# Altium schematic symbol library Voltage Regulator.SchLib: 21 symbols
Pins are listed as number, name and electrical type; pins without a type are passive.

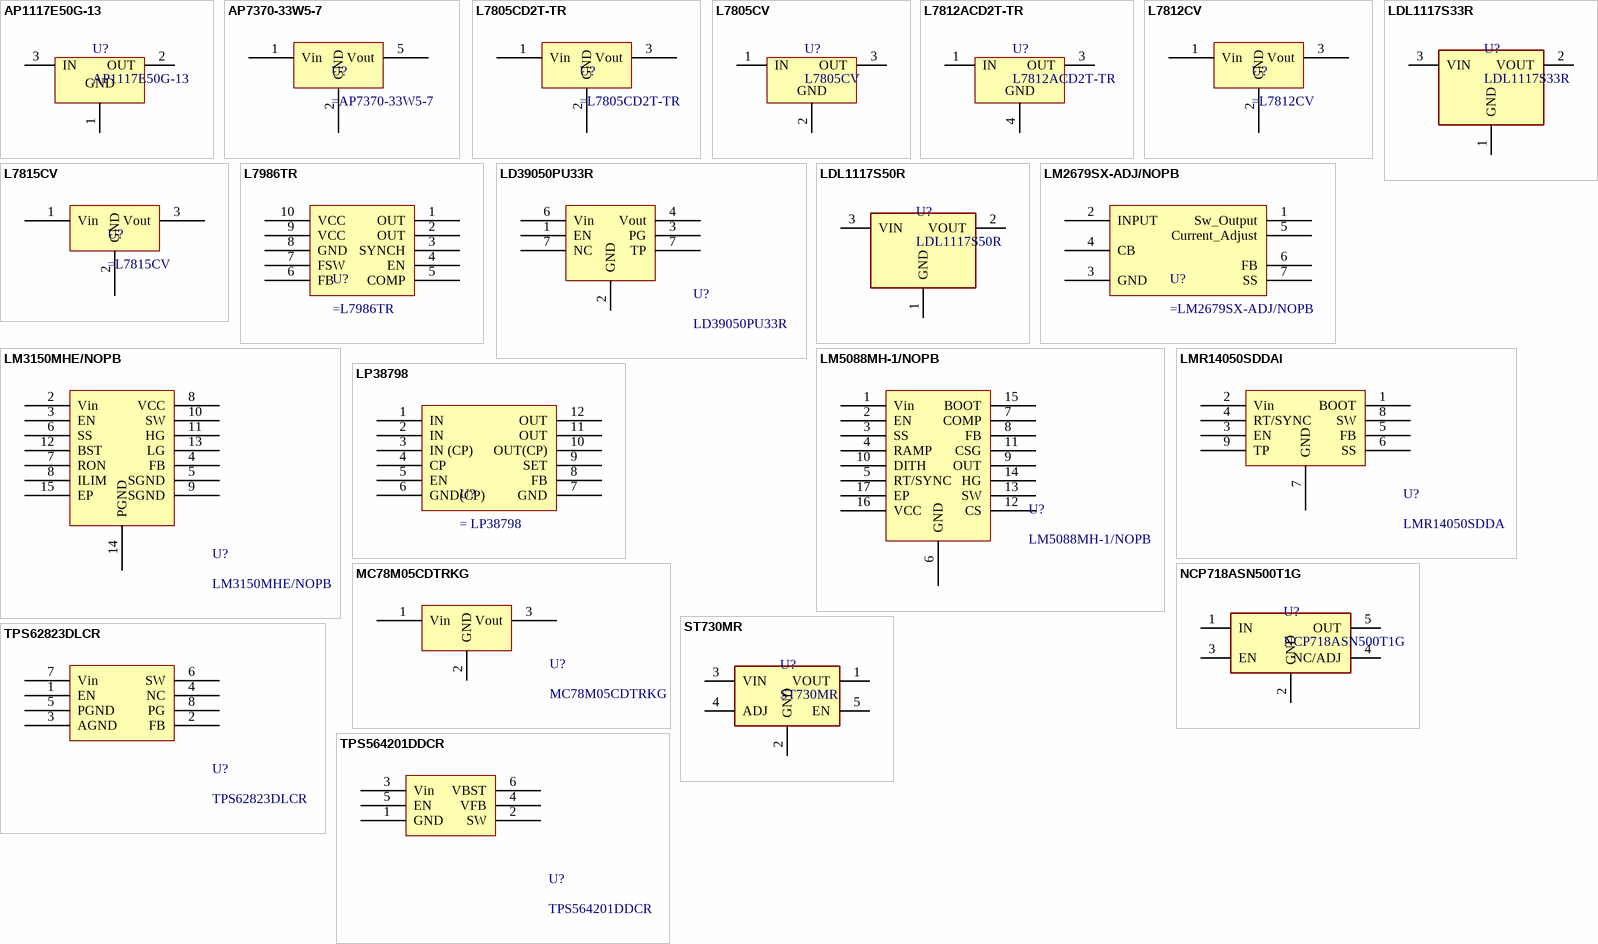
[diagram p0: symbols AP1117E50G-13 to TPS564201DDCR]

## AP1117E50G-13
designator U?
IC REG LINEAR 5V 1A SOT-223-3; Manufacturer: Diodes Incorporated; Max Power Dissipation: 15 W; Output Type: Fixed; Number of Regulators: 1; Voltage - Input (Max): 18V; Current - Quiescent (Iq): 10 mA; Voltage - Dropout (Max): 1.3V; Power Dissipation: Internally limited; Voltage - Output (Max): 5.3V; Supplier 1: MOUSER; Part Number: AP1117E50G-13; Library Ref: Voltage Regulator; Category: Linear Voltage Regulator; Price: 1= 0.48000, 10= 0.38900, 100= 0.24000 (USD); Package/ Case: SOT-223-3; Operating Temperature: -20°C/125°C; Voltage - Output (Min/Fixed): 5V; Supplier Part Number 1: 621-AP1117E50G-13; Current - Output: 1 A; ComponentLink1Description: Mouser Link; ComponentLink1URL: https://br.mouser.com/ProductDetail/Diodes-Incorporated/AP1117E50G-13?qs=%2Fha2pyFadugY3B1se8ggjHM3Rnn%252BdepklK%252BjtxF%2FSx8Z%2FYRK43Uigw%3D%3D; ComponentLink2Description: Datasheet; ComponentLink2URL: https://br.mouser.com/datasheet/2/115/AP1117-82280.pdf
footprint SOT-223-3
pins: 1 GND (power), 2 OUT (power), 3 IN (power)

## AP7370-33W5-7
designator U?
IC REGLINEAR 3.3V 300mA; Manufacturer: Diodes Incorporated; Part Number: AP7370-33W5-7; Max Power Dissipation: 0,967W; Output Type: Fixed; Voltage - Input (Max): 20V; Current - Quiescent (Iq): Ultra Low; Voltage - Dropout (Max): 16.7V; Power Dissipation: 0.967W; Supplier 1: Mouser; Library Ref: Voltage Regulator; Category: Linear Voltage Regulator; Price: 1=0,40, 10=0,32, 100=0,19 (USD); Datasheet: https://br.mouser.com/datasheet/2/115/AP7370-1605740.pdf; Package/ Case: SOT-25-5; Operating Temperature: -65 to 150ºC; Mouser Link: https://br.mouser.com/ProductDetail/Diodes-Incorporated/AP7370-33W5-7?qs=%2Fha2pyFadugvTLtMbpNAWKSUPVJjR9Anq%2F198IzgkwzIRMdjBskxocCj%2FSGsAqTl; Voltage - Output (Min/Fixed): 3.3V; Supplier Part Number 1: 621-AP7370-33W5-7; Current - Output: 300mA; Voltage - Output (Max): 3.3V
pins: 1 Vin, 2 GND, 5 Vout

## L7805CD2T-TR
designator U?
IC REG LINEAR 5V 1.5A; Manufacturer: ST; Part Number: L7805CD2T-TR; Max Power Dissipation: Internally Limited; Output Type: Fixed; Voltage - Input (Max): 35 to 40V; Current - Quiescent (Iq): 6mA; Voltage - Dropout (Max): 30V; Current - Output: 1A; Supplier 1: Mouser; Library Ref: Voltage Regulator; Category: Linear Voltage Regulator; Price: 1=0,93, 10=0,83, 100=0,79 (USD); Datasheet: https://br.mouser.com/datasheet/2/389/cd00000444-1795274.pdf; Package/ Case: D2PAK; Operating Temperature: -40 to 125 ºC; Mouser Link: https://br.mouser.com/ProductDetail/STMicroelectronics/L7805CD2T-TR?qs=%2Fha2pyFadujE9KQ1BxQHaLKqcK8XYkwQA8UfL%2FIGb8dfQq%2Fq%2FT%2Fjqg%3D%3D; Voltage - Output (Min/Fixed): 5V; Supplier Part Number 1: 511-L7805CD2T-TR; Power Dissipation: Internally Limited; Voltage - Output (Max): 5V
pins: 1 Vin, 2 GND, 3 Vout

## L7805CV
designator U?
IC REG LINEAR 5V 1A TO-220; Manufacturer: STMicroelectronics; Max Power Dissipation: Internally limited; Output Type: Fixed; Number of Regulators: 1; Voltage - Input (Max): 35V; Current - Quiescent (Iq): 6 mA; Voltage - Output (Max): 5.3V; Supplier 1: MOUSER; Part Number: L7805CV; Library Ref: Voltage Regulator; Category: Linear Voltage Regulator; Price: 1= 0.67000, 10= 0.53200, 100= 0.39500 (USD); Package/ Case: TO-220; Operating Temperature: 0°C/125°C; Voltage - Output (Min/Fixed): 5V; Supplier Part Number 1: 511-L7805CV; Current - Output: 1 A; Power Dissipation: Internally limited; ComponentLink1Description: Mouser Link; ComponentLink1URL: https://br.mouser.com/ProductDetail/STMicroelectronics/L7805CV?qs=9NrABl3fj%2FqplZAHiYUxWg%3D%3D; ComponentLink2Description: Datasheet; ComponentLink2URL: https://br.mouser.com/datasheet/2/389/cd00000444-1795274.pdf
footprint TO-220 (TO, Thru-Hole, Vertical, Heatsink Mounted; 3 In-Line Leads; Pitch 2.54 mm)
pins: 1 IN (power), 2 GND (power), 3 OUT (power)

## L7812ACD2T-TR
designator U?
IC REG LINEAR 12V 1.5A D2PAK; Manufacturer: STMicroelectronics; Max Power Dissipation: Internally limited; Output Type: Fixed; Number of Regulators: 1; Voltage - Input (Max): 35V; Current - Quiescent (Iq): 6 mA; Voltage - Output (Max): 12.3V; Supplier 1: MOUSER; Part Number: L7812ACD2T-TR; Library Ref: Voltage Regulator; Category: Linear Voltage Regulator; Price: 1= 0.83000, 10= 0.69000, 100= 0.56400 (USD); Package/ Case: D2PAK; Operating Temperature: 0°C/125°C; Voltage - Output (Min/Fixed): 12V; Supplier Part Number 1: 511-L7812ACD2T-TR; Current - Output: 1.5 A; Power Dissipation: Internally limited; ComponentLink1Description: Mouser Link; ComponentLink1URL: https://br.mouser.com/ProductDetail/STMicroelectronics/L7812ACD2T-TR?qs=%2Fha2pyFadughRW5ba%2FUlu%252BBIrfEWqNYikXUXbqNAKzaYx5upn8F2%252Bw%3D%3D; ComponentLink2Description: Datasheet; ComponentLink2URL: https://www.mouser.com/datasheet/2/389/cd00000444-1795274.pdf
footprint D2PAK
pins: 1 IN (power), 3 OUT (power), 4 GND (power)

## L7812CV
designator U?
IC REG LINEAR 12V 1.5A; Manufacturer: ST; Part Number: L7812CV; Max Power Dissipation: Internally Limited; Output Type: Fixed; Voltage - Input (Max): 35V to 40V; Current - Quiescent (Iq): 6mA; Voltage - Dropout (Max): 23V; Supplier 1: Mouser; Library Ref: Voltage Regulator; Category: Linear Voltage Regulator; Price: 1= 0,49, 10= 0,39, 100=0,29 (USD); Datasheet: https://br.mouser.com/datasheet/2/389/cd00000444-1795274.pdf; Package/ Case: TO-220; Operating Temperature: -40 to 125ºC; Mouser Link: https://br.mouser.com/ProductDetail/STMicroelectronics/L7812CV?qs=5Uvc6lfWVJzVGZQZmBynyg%3D%3D; Voltage - Output (Min/Fixed): 12V; Supplier Part Number 1: 511-L7812CV; Current - Output: 1.5A; Power Dissipation: Internally Limited; Voltage - Output (Max): 12V
pins: 1 Vin, 2 GND, 3 Vout

## L7815CV
designator U?
IC REG LINEAR 15V 1.5A; Manufacturer: ST; Part Number: L7815CV; Max Power Dissipation: Internally Limited; Output Type: Fixed; Voltage - Input (Max): 35V to 40V; Current - Quiescent (Iq): 6mA; Voltage - Dropout (Max): 25V; Current - Output: 1A; Supplier 1: Mouser; Library Ref: Voltage Regulator; Category: Linear Voltage Regulator; Price: 1=0,67, 10=0,53, 100=0,39 (USD); Datasheet: https://br.mouser.com/datasheet/2/389/cd00000444-1795274.pdf; Package/ Case: TO-220; Operating Temperature: -40 to 125 ºC; Mouser Link: https://br.mouser.com/ProductDetail/STMicroelectronics/L7815CV?qs=htKRmzjvioQnqIcNFSQfsw%3D%3D; Voltage - Output (Min/Fixed): 15V; Supplier Part Number 1: 511-L7815CV; Power Dissipation: Internally Limited; Voltage - Output (Max): 15V
pins: 1 Vin, 2 GND, 3 Vout

## L7986TR
designator U?
IC SWITCHING REGULATOR 3A 0.6V TO 38V; Manufacturer: ST; Part Number: L7986TR; Max Power Dissipation: 1.5W; Current - Quiescent (Iq): 2.4mA; Voltage - Dropout (Max): 37.4V; Supplier 1: Mouser; Library Ref: Voltage Regulator; Category: Switch Voltage Regulator; Price: 1=2.13, 10=1.91, 100=1.81 (USD); Datasheet: https://br.mouser.com/datasheet/2/389/dm00041568-1797348.pdf; Package/ Case: VFQFPN10; Operating Temperature: -55 to +150; Mouser Link: https://br.mouser.com/ProductDetail/STMicroelectronics/L7986TR?qs=%2Fha2pyFaduhSAWyUowiTGEPjDeRtnwDI5JloeVo%2FbPI%3D; Voltage - Input (Max): 38V; Voltage - Output (Min/Fixed): 0.6V to 38V; Supplier Part Number 1: 511-L7986TR; Current - Output: 3A; Power Dissipation: 1.5W; Voltage - Output (Max): 0.6V to 38V
pins: 1 OUT, 2 OUT, 3 SYNCH, 4 EN, 5 COMP, 6 FB, 7 FSW, 8 GND, 9 VCC, 10 VCC

## LD39050PU33R
designator U?
IC REG LINEAR 3.3V 500mA DFN-6; Manufacturer: ST; Output Type: Fixed; Number of Regulators: 1; Voltage - Input (Max): 5.5V; Current - Quiescent (Iq): 50uA; Voltage - Dropout (Max): 200mV; Power Dissipation: Internally limited; Supplier 1: MOUSER; Part Number: LD39050PU33R; Library Ref: Voltage Regulator; Category: Linear Voltage Regulator; Price: 1=1,15, 10=1,04, 100=0,805 (USD); Package/ Case: DFN-6; Operating Temperature: -40/125ºC; Voltage - Output (Min/Fixed): 3.3V; Supplier Part Number 1: 511-LD39050PU33R; Current - Output: 500mA; Voltage - Output (Max): 3.3V; ComponentLink1Description: Datasheet; ComponentLink1URL: https://br.mouser.com/datasheet/2/389/cd00227527-1796864.pdf; ComponentLink2Description: Mouser Link; ComponentLink2URL: https://br.mouser.com/ProductDetail/STMicroelectronics/LD39050PU33R?qs=%2Fha2pyFaduiE1jyjxyHM5a6T743eYlvFtYmsVlKyOscUOFir55lSig%3D%3D
footprint DFN-6 (SON, 6-Leads, Body 3,00x3,00mm, Pitch 0,95mm, Thermal Pad 2,37x1,49mm, IPC Medium Density)
pins: 1 EN, 2 GND, 3 PG, 4 Vout, 6 Vin, 7 NC, 7 TP

## LDL1117S33R
designator U?
IC REG LINEAR 3.3V 1.2A SOT-223-4; Manufacturer: STMicroelectronics; Max Power Dissipation: Internally limited; Output Type: Fixed; Number of Regulators: 1; Voltage - Input (Max): 18V; Current - Quiescent (Iq): 250 uA; Voltage - Dropout (Max): 350mV; Library Control - Checked Footprint: No; Library Control - Person that did the Last Update Footprint: Pierre; Voltage - Output (Max): 3.6V; Supplier 1: MOUSER; Part Number: LDL1117S33R; Library Ref: Voltage Regulator; Category: Linear Voltage Regulator; Price: 1= 0.46000, 10= 0.34000, 100= 0.22900 (USD); Package/ Case: SOT-223-4; Operating Temperature: -40°C/125°C; Voltage - Output (Min/Fixed): 3.3 V; Supplier Part Number 1: 863-NCP718ASN500T1G; Library Control - Checked Schematic: No; Library Control - Last Update: 10/06/21 20:27; Library Control - Person that did the Last Update Schematic: Pierre; Current - Output: 1.2 A; Power Dissipation: Internally limited; ComponentLink1Description: Mouser Link; ComponentLink1URL: https://br.mouser.com/ProductDetail/STMicroelectronics/LDL1117S33R?qs=%2Fha2pyFadugA91l4ky%2FRZ5SN3GrMJ6YI2MUHTqmRDLfkBVrFdA%252BW6Q%3D%3D; ComponentLink2Description: Datasheet; ComponentLink2URL: https://br.mouser.com/datasheet/2/389/dm00366442-1799212.pdf
footprint SOT-223-4
pins: 1 GND (power), 2 VOUT (power), 3 VIN (power)

## LDL1117S50R
designator U?
IC REG LINEAR 5V 1.2A SOT-223-4; Manufacturer: STMicroelectronics; Max Power Dissipation: Internally limited; Output Type: Fixed; Number of Regulators: 1; Voltage - Input (Max): 18V; Current - Quiescent (Iq): 500 uA; Voltage - Dropout (Max): 600 mV; Voltage - Output (Max): 5.3V; Supplier 1: MOUSER; Part Number: LDL1117S50R; Library Ref: Voltage Regulator; Category: Linear Voltage Regulator; Price: 1= 0.46000, 10= 0.34000, 100= 0.22900 (USD); Package/ Case: SOT-223-4; Operating Temperature: -40°C/125°C; Voltage - Output (Min/Fixed): 5V; Supplier Part Number 1: 511-LDL1117S50R; Current - Output: 1.2 A; Power Dissipation: Internally limited; ComponentLink1Description: Mouser Link; ComponentLink1URL: https://br.mouser.com/ProductDetail/STMicroelectronics/LDL1117S50R?qs=AQlKX63v8RsuN9BQFiVf%2Fg%3D%3D; ComponentLink2Description: Datasheet; ComponentLink2URL: https://br.mouser.com/datasheet/2/389/dm00366442-1799212.pdf
footprint SOT-223-4
pins: 1 GND (power), 2 VOUT (power), 3 VIN (power)

## LM2679SX-ADJ/NOPB
designator U?
IC SWITCHING REGULATOR 5A 1.2V TO 37V; Manufacturer: Texas Instruments; Part Number: LM2679SX-ADJ/NOPB; Max Power Dissipation: Internally Limited; Output Type: Switch; Voltage - Input (Max): 45V; Voltage - Output (Min/Fixed): Adjustable; Current - Quiescent (Iq): 6mA; Voltage - Dropout (Max): 41.7V; Voltage - Output (Max): 3.3V to 45V; Supplier 1: Mouser; Library Ref: Voltage Regulator; Category: Switch Voltage Regulator; Price: 1=63,2, 10=5,68, 100=5,37 (USD); Datasheet: https://www.ti.com/lit/ds/symlink/lm2679.pdf?HQS=dis-mous-null-mousermode-dsf-pf-null-wwe&ts=1622835755029&ref_url=https%253A%252F%252Fwww.google.com%252F; Package/ Case: TO-263-7; Operating Temperature: -40 to 125ºC; Mouser Link: https://br.mouser.com/ProductDetail/Texas-Instruments/LM2679SX-ADJ-NOPB?qs=X1J7HmVL2ZEYTS2v67ZbZA%3D%3D; Supplier Part Number 1: 926-LM2679SXADJNOPB; Current - Output: 5A; Power Dissipation: Internally Limited
pins: 1 Sw_Output, 2 INPUT, 3 GND, 4 CB, 5 Current_Adjust, 6 FB, 7 SS

## LM3150MHE/NOPB
designator U?
IC REG SWITCHING 12A 0V TO 0.6V; Manufacturer: Texas Instruments; Max Power Dissipation: 45W; Output Type: Regulated; Number of Regulators: 1; Voltage - Input (Max): 42V; Voltage - Input (Min): 6V; Frequency - Switching: 1MHz; Current - Operating Supply: 3.5mA; Supplier 1: MOUSER; Part Number: LM3150MHE/NOPB; Library Ref: Voltage Regulator; Category: Switching Voltage Regulator; Price: 1=4,23, 10=3,80, 100=3,11 (USD); Package/ Case: HTSSOP-14; Operating Temperature: -40/+125ºC; Voltage - Output (Min/Fixed): 0V; Supplier Part Number 1: 926-LM3150MHE/NOPB; Voltage - Output (Max): 0.6V; Current - Output: 12A; ComponentLink1Description: Datasheet; ComponentLink1URL: https://www.ti.com/lit/ds/symlink/lm3150.pdf?HQS=dis-mous-null-mousermode-dsf-pf-null-wwe&ts=1622835430213&ref_url=https%253A%252F%252Fwww.google.com%252F; ComponentLink2Description: Mouser Link; ComponentLink2URL: https://br.mouser.com/ProductDetail/Texas-Instruments/LM3150MHE-NOPB?qs=%2Fha2pyFadujvnC2x0UTNH44IuoZUtI2bfShD1icSBFiWA5dioUHe0Rr9mciHEK%2Fq
footprint HTSSOP-14 (TSOP, 14-Leads, Body 5,00x4,16mm, Pitch 0,65mm, Thermal Pad 3,10x3,10mm, IPC Medium Density)
pins: 2 Vin, 3 EN, 4 FB, 5 SGND, 6 SS, 7 RON, 8 VCC, 8 ILIM, 9 SGND, 10 SW, 11 HG, 12 BST, 13 LG, 14 PGND, 15 EP

## LM5088MH-1/NOPB
designator U?
IC REG SWITCHING 10A 1.205V TO 70V; Manufacturer: Texas Instruments; Max Power Dissipation: 850mW; Output Type: Regulated; Number of Regulators: 1; Voltage - Input (Max): 75V; Voltage - Input (Min): 4.5V; Frequency - Switching: 50kHz TO 1MHz; Current - Operating Supply: 3.8mA; Supplier 1: MOUSER; Part Number: LM5088MH-1/NOPB; Library Ref: Voltage Regulator; Category: Switching Voltage Regulator; Price: 1=4,80, 10=4,31, 100=3,52 (USD); Package/ Case: HTSSOP-16; Operating Temperature: -40/+125ºC; Voltage - Output (Min/Fixed): 1.205V; Supplier Part Number 1: 926-LM5088MH-1/NOPB; Voltage - Output (Max): 70V; Current - Output: 10A; ComponentLink1Description: Datasheet; ComponentLink1URL: https://www.ti.com/lit/ds/symlink/lm5088.pdf?HQS=dis-mous-null-mousermode-dsf-pf-null-wwe&ts=1622835413175&ref_url=https%253A%252F%252Fwww.google.com%252F; ComponentLink2Description: Mouser Link; ComponentLink2URL: https://br.mouser.com/ProductDetail/Texas-Instruments/LM5088MH-1-NOPB?qs=QbsRYf82W3Ec%2FzGVG381UQ%3D%3D
footprint HTSSOP-16 (TSOP, 16-Leads, Body 5,00x4,40mm, Pitch 0,65mm, Thermal Pad 3,30x3,30mm, IPC Medium Density)
pins: 1 Vin, 2 EN, 3 SS, 4 RAMP, 5 RT/SYNC, 6 GND, 7 COMP, 8 FB, 9 OUT, 10 DITH, 11 CSG, 12 CS, 13 SW, 14 HG, 15 BOOT, 16 VCC, 17 EP

## LMR14050SDDAl
designator U?, comment LMR14050SDDA
IC REG SWITCHING 5A 0.8V TO 28V; Manufacturer: Texas Instruments; Output Type: Regulated; Number of Regulators: 1; Voltage - Input (Max): 40V; Voltage - Input (Min): 4V; Frequency - Switching: 2.2MHz; Current - Operating Supply: 40uA; Supplier 1: MOUSER; Part Number: LMR14050SDDA; Library Ref: Voltage Regulator; Category: Switching Voltage Regulator; Price: 1=3,56, 10=3,20, 100=2,61 (USD); Package/ Case: SO-PowerPad-8; Operating Temperature: -40/+125ºC; Max Power Dissipation: -; Voltage - Output (Min/Fixed): 0.8V; Supplier Part Number 1: 595-LMR14050SDDA; Voltage - Output (Max): 28V; Current - Output: 5A; ComponentLink1Description: Datasheet; ComponentLink1URL: https://www.ti.com/lit/ds/symlink/lmr14050.pdf?HQS=dis-mous-null-mousermode-dsf-pf-null-wwe&ts=1622835396169&ref_url=https%253A%252F%252Fwww.google.com%252F; ComponentLink2Description: Mouser Link; ComponentLink2URL: https://br.mouser.com/ProductDetail/Texas-Instruments/LMR14050SDDA?qs=G5PZsBocSXvS%252BW5YoCtcqQ%3D%3D
footprint SO-PowerPad-8 (SOIC, 8-Leads, Body 4,90x3,90mm, Pitch 1,27mm, Thermal Pad 3,10x2,40mm, IPC Medium Density)
pins: 1 BOOT, 2 Vin, 3 EN, 4 RT/SYNC, 5 FB, 6 SS, 7 GND, 8 SW, 9 TP

## LP38798
designator U?
IC SWITCHING REGULATOR 800mA 3V TO 20V; Manufacturer: Texas Instruments; Part Number: LP38798; Max Power Dissipation: Internally Limited; Output Type: Switch; Voltage - Output (Min/Fixed): 1.2V; Current - Quiescent (Iq): 2.2mA; Voltage - Dropout (Max): 17.8V; Supplier 1: Mouser; Library Ref: Voltage Regulator; Category: Switch Voltage Regulator; Price: 1=3,70, 10=3,32, 100=3,14 (USD); Datasheet: https://www.ti.com/lit/ds/symlink/lp38798.pdf?HQS=dis-mous-null-mousermode-dsf-pf-null-wwe&ts=1622835313490&ref_url=https%253A%252F%252Fwww.google.com%252F; Package/ Case: WSON-12; Operating Temperature: -65 to 150ºC; Mouser Link: https://br.mouser.com/ProductDetail/Texas-Instruments/LP38798SDE-ADJ-NOPB?qs=n38Wlrh4b4aayTiTCgMhSA%3D%3D; Voltage - Input (Max): 20V; Supplier Part Number 1: 595-LP38798SDEADJNPB; Current - Output: 800mA; Power Dissipation: Internally Limited; Voltage - Output (Max): 20V
pins: 1 IN, 2 IN, 3 IN (CP), 4 CP, 5 EN, 6 GND(CP), 7 GND, 8 FB, 9 SET, 10 OUT(CP), 11 OUT, 12 OUT

## MC78M05CDTRKG
designator U?
IC REG LINEAR 5V 500mA TO-252-3; Manufacturer: ON Semiconductor; Output Type: Fixed; Number of Regulators: 1; Voltage - Input (Max): 35V; Current - Quiescent (Iq): 0.8mA; Voltage - Dropout (Max): 2.0V; Supplier 1: MOUSER; Part Number: MC78M05CDTRKG; Library Ref: Voltage Regulator; Category: Linear Voltage Regulator; Price: 1=0,48,10=0,406, 100=0,281 (USD); Package/ Case: TO-252-3; Operating Temperature: 0/+125ºC; Max Power Dissipation: -; Voltage - Output (Min/Fixed): 5V; Supplier Part Number 1: 863-MC78M05CDTRKG; Current - Output: 500mA; Voltage - Output (Max): 5V; ComponentLink1Description: Datasheet; ComponentLink1URL: https://br.mouser.com/datasheet/2/308/1/MC78M00_D-2316032.pdf; ComponentLink2Description: Mouser Link; ComponentLink2URL: https://br.mouser.com/ProductDetail/ON-Semiconductor/MC78M05CDTRKG?qs=%2Fha2pyFaduirlRo6%252B6i1uI%2F8zrb8sRMZfecK7BDoyj3iVBrTtFeRIg%3D%3D
footprint TO-252-3 (D-PAK, 3-Pads, Body 6,21x6,73mm (max), IPC Medium Density)
pins: 1 Vin, 2 GND, 3 Vout

## NCP718ASN500T1G
designator U?
IC REG LINEAR 5V 300mA TSOT-23-5; Manufacturer: ON Semiconductor; Max Power Dissipation: Internally limited; Output Type: Fixed; Number of Regulators: 1; Voltage - Input (Max): 24V; Current - Quiescent (Iq): 4 uA; Voltage - Dropout (Max): 380 mV; Voltage - Output (Max): 5.3V; Supplier 1: MOUSER; Part Number: NCP718ASN500T1G; Library Ref: Voltage Regulator; Category: Linear Voltage Regulator; Price: 1= 0.53000, 10= 0.45600, 100= 0.31600 (USD); Package/ Case: TSOT-23-5; Operating Temperature: -40°C/125°C; Voltage - Output (Min/Fixed): 5V; Supplier Part Number 1: 863-NCP718ASN500T1G; Current - Output: 300 mA; Power Dissipation: Internally limited; ComponentLink1Description: Datasheet; ComponentLink1URL: https://br.mouser.com/datasheet/2/308/1/NCP718_D-2317435.pdf; ComponentLink2Description: Mouser Link; ComponentLink2URL: https://br.mouser.com/ProductDetail/ON-Semiconductor/NCP718ASN500T1G?qs=%2Fha2pyFadujVPk3%252BPJxrrjZu0iWv1aU0l12V8nReSjBrkWpAUSUQYw4Kc5lpI2ag
footprint TSOT-23-5
pins: 1 IN, 2 GND, 3 EN, 4 NC/ADJ, 5 OUT

## ST730MR
designator U?
IC REG LINEAR 1.2V 300mA SOT23-5L; Manufacturer: STMicroelectronics; Max Power Dissipation: Internally limited; Output Type: Fixed; Number of Regulators: 1; Voltage - Input (Max): 28V; Current - Quiescent (Iq): 10 uA; Voltage - Output (Max): 1.5V; Supplier 1: MOUSER; Part Number: ST730MR; Library Ref: Voltage Regulator; Category: Linear Voltage Regulator; Price: 1= 0.92000, 10= 0.76000, 100= 0.49000 (USD); Package/ Case: SOT23-5L; Operating Temperature: -40°C/125°C; Voltage - Output (Min/Fixed): 1.2V; Supplier Part Number 1: 511-ST730MR; Voltage - Dropout (Max): 1.2V; Current - Output: 300 mA; Power Dissipation: Internally limited; ComponentLink1Description: Mouser Link; ComponentLink1URL: https://br.mouser.com/ProductDetail/STMicroelectronics/ST730MR?qs=%2Fha2pyFadugOYpqU687J%252BCNw0yNXHvZSq7ugr46VOyaoWRPk2YBZ6w%3D%3D; ComponentLink2Description: Datasheet; ComponentLink2URL: https://br.mouser.com/datasheet/2/389/dm00625749-1799579.pdf
footprint SOT23-5L
pins: 1 VOUT, 2 GND, 3 VIN, 4 ADJ, 5 EN

## TPS62823DLCR
designator U?
IC REG SWITCHING 3A 0.6V TO 4V; Manufacturer: Texas Instruments; Output Type: Regulated; Number of Regulators: 1; Voltage - Input (Max): 5.5V; Voltage - Input (Min): 2.4V; Frequency - Switching: 2.2MHz; Supplier 1: MOUSER; Part Number: TPS62823DLCR; Library Ref: Voltage Regulator; Category: Switching Regulator; Price: 1=1,67, 10=1,51, 100=1,21 (USD); Package/ Case: VSON-HR-8; Operating Temperature: -40/+125ºC; Voltage - Output (Min/Fixed): 0.6V; Supplier Part Number 1: 595-TPS62823DLCR; Voltage - Output (Max): 4V; Current - Output: 3A; Current - Operating Supply: *; ComponentLink1Description: Datasheet; ComponentLink1URL: https://www.ti.com/lit/ds/symlink/tps62823.pdf?HQS=dis-mous-null-mousermode-dsf-pf-null-wwe&DCM=yes&ref_url=https%3A%2F%2Fwww.google.com%2F&distId=26; ComponentLink2Description: Mouser Link; ComponentLink2URL: https://br.mouser.com/ProductDetail/Texas-Instruments/TPS62823DLCR?qs=%2Fha2pyFadugGfwlG6tIeOALgGXIjvEauykkOU4bGZm%252BYrUk76ABgIg%3D%3D
footprint VSON-HR-8 (SON, 8-Leads, Body 2,00x1,50mm, Pitch 0,50mm, IPC Medium Density)
pins: 1 EN, 2 FB, 3 AGND, 4 NC, 5 PGND, 6 SW, 7 Vin, 8 PG

## TPS564201DDCR
designator U?
IC REG SWITCHING 4A 0.76V TO 7V; Manufacturer: Texas Instruments; Output Type: Regulated; Number of Regulators: 1; Voltage - Input (Max): 17V; Voltage - Input (Min): 4.5V; Frequency - Switching: 560kHz; Current - Operating Supply: 400uA; Supplier 1: MOUSER; Part Number: TPS564201DDCR; Library Ref: Voltage Regulator; Category: Switching Voltage Regulator; Price: 1=1,22, 10=1,11, 100=0,859 (USD); Package/ Case: SOT-23-Thin-6; Operating Temperature: -40/+125ºC; Max Power Dissipation: -; Voltage - Output (Min/Fixed): 0.76V; Supplier Part Number 1: 595-TPS564201DDCR; Voltage - Output (Max): 7V; Current - Output: 4A; ComponentLink1Description: Datasheet; ComponentLink1URL: https://www.ti.com/lit/ds/symlink/tps564201.pdf?HQS=dis-mous-null-mousermode-dsf-pf-null-wwe&ts=1622835474175&ref_url=https%253A%252F%252Fwww.google.com%252F; ComponentLink2Description: Mouser Link; ComponentLink2URL: https://br.mouser.com/ProductDetail/Texas-Instruments/TPS564201DDCR?qs=%2Fha2pyFaduji6kpZkT4EYijYDwJ1xKUe3V3vTuU6PlftkNR06F3Dhn%2F7oqprzta6
footprint SOT-23-Thin-6 (SOT23, 6-Leads, Body 2,90x2,80mm, Pitch 0,95mm, IPC Medium Density)
pins: 1 GND, 2 SW, 3 Vin, 4 VFB, 5 EN, 6 VBST